# Altium footprint library LvlShiftIsolator.PcbLib: 3 footprints
Each footprint in its own frame and in the unit in brackets; x right, y up, seen from the top. Pads: shape width x height; smd on the part's side, far side on the other; paste and mask are expansions set on the pad; w line width, h text height; cw(c..) or ccw(c..) is an arc to the next point about the centre after c.
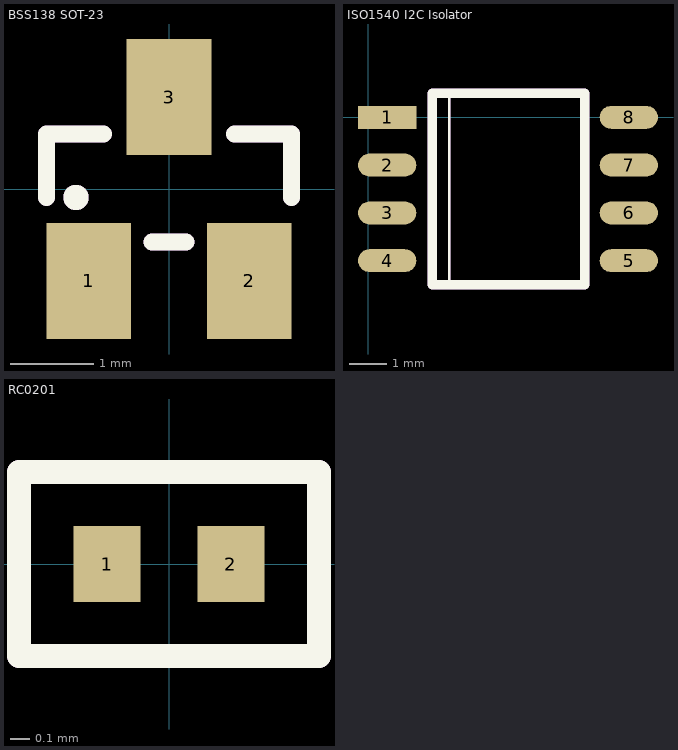
[diagram p0: the footprints below, top view; thin cyan lines are the x and y axes]

## BSS138 SOT-23 [mil]
pads (3):
  rect 40x55 smd: 1(-38,-43.5) 2(38,-43.5) 3(0,43.5)
Top Overlay:
  circle w10: c-44,-4 r1
  lines w8: -58,-4 -58,26 -31,26 ; -8,-25 8,-25 ; 31,26 58,26 58,-4
Assembly:
  circle w10: c-44,-4 r1
  lines w8: -58,-4 -58,26 -31,26 ; -8,-25 8,-25 ; 31,26 58,26 58,-4
  text "'.Designator'" at -33,-11.34 h20
3D body "SOT-23_3L_ONS.step": height 44.09, standoff 0, extent -60,-52 60,52.01

## ISO1540 I2C Isolator [mil]
pads (8):
  rect 61x24 smd: 1(20,0)
  oval 61x24 smd: 2(20,-50) 3(20,-100) 4(20,-150) 5(273,-150) 6(273,-100) 7(273,-50) 8(273,0)
Top Overlay:
  lines w3: 85,-173 85,27
  lines w10: 67,-175 227,-175 227,25 67,25 67,-175
Assembly:
  lines w3: 85,-173 85,27
  lines w10: 67,-175 227,-175 227,25 67,25 67,-175
  text "'.Designator'" at 95,-98.67 h40
3D body "D0008B.stp": height 64, standoff 0, extent 27.45,-171.49 264.56,21.51

## RC0201 [mm]
pads (2):
  rect 0.35x0.4 smd: 1(-0.325,0) 2(0.325,0)
Top Overlay:
  lines w0.127: -0.787,-0.483 -0.787,0.483 0.787,0.483 0.787,-0.483 -0.787,-0.483
Assembly:
  lines w0.127: -0.787,-0.483 -0.787,0.483 0.787,0.483 0.787,-0.483 -0.787,-0.483
  text "'.Designator'" at -0.635,-0.229 h0.38
3D body "YAG_R0201_YAG.step": height 0.25, standoff 0, extent -0.318,-0.165 0.318,0.165